# EAGLE library part TI-SN6505X (library EagleLibrary)
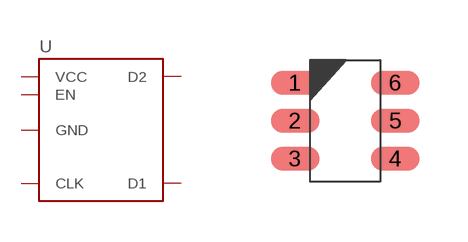
[diagram p30: symbol with the pads of TI-SN6505X; footprint TI-SN6505X]

Designator prefix U

## TI-SN6505X (MFG: Texas Instruments)  [TI-SN6505X]
1  D1
2  VCC
3  D2
4  GND
5  EN
6  CLK

## Footprint TI-SN6505X (pad centres in mm)
6-SOT23, 0.95 mm pitch, 2.80 mm span, 2.90 X 1.60 X 1.45 mm body 6-pin SOT23 package with 0.95 mm pitch, 2.80 mm span with body size 2.90 X 1.60 X 1.45 mm
smd 1.209 x 0.584: 1 -1.253,0.95; 2 -1.253,0; 3 -1.253,-0.95; 4 1.253,-0.95; 5 1.253,0; 6 1.253,0.95